# EAGLE library part BM10B(0.8)-40DP-0.4V (library con-hirose-bm10)
HEADER
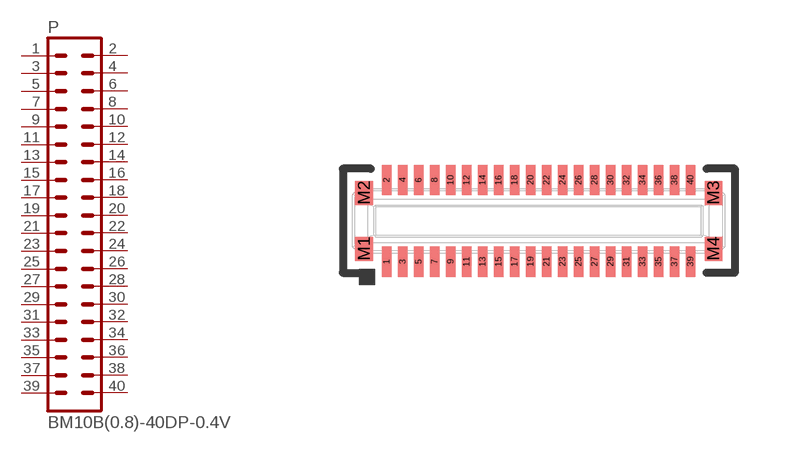
[diagram p0: symbol with the pads of BM10B(0.8)-40DP-0.4V; footprint BM10B(0.8)-40DP-0.4V]

Designator prefix P

## BM10B(0.8)-40DP-0.4V  [BM10B(0.8)-40DP-0.4V]
1  1  pas
2  2  pas
3  3  pas
4  4  pas
5  5  pas
6  6  pas
7  7  pas
8  8  pas
9  9  pas
10  10  pas
11  11  pas
12  12  pas
13  13  pas
14  14  pas
15  15  pas
16  16  pas
17  17  pas
18  18  pas
19  19  pas
20  20  pas
21  21  pas
22  22  pas
23  23  pas
24  24  pas
25  25  pas
26  26  pas
27  27  pas
28  28  pas
29  29  pas
30  30  pas
31  31  pas
32  32  pas
33  33  pas
34  34  pas
35  35  pas
36  36  pas
37  37  pas
38  38  pas
39  39  pas
40  40  pas

## Footprint BM10B(0.8)-40DP-0.4V (pad centres in mm)
HEADER
smd 0.23 x 0.76: 1 -3.8,-1.02; 2 -3.8,1.02; 3 -3.4,-1.02; 4 -3.4,1.02; 5 -3,-1.02; 6 -3,1.02; 7 -2.6,-1.02; 8 -2.6,1.02; 9 -2.2,-1.02; 10 -2.2,1.02; 11 -1.8,-1.02; 12 -1.8,1.02; 13 -1.4,-1.02; 14 -1.4,1.02; 15 -1,-1.02; 16 -1,1.02; 17 -0.6,-1.02; 18 -0.6,1.02; 19 -0.2,-1.02; 20 -0.2,1.02; 21 0.2,-1.02; 22 0.2,1.02; 23 0.6,-1.02; 24 0.6,1.02; 25 1,-1.02; 26 1,1.02; 27 1.4,-1.02; 28 1.4,1.02; 29 1.8,-1.02; 30 1.8,1.02; 31 2.2,-1.02; 32 2.2,1.02; 33 2.6,-1.02; 34 2.6,1.02; 35 3,-1.02; 36 3,1.02; 37 3.4,-1.02; 38 3.4,1.02; 39 3.8,-1.02; 40 3.8,1.02
smd 0.44 x 0.6: M1 -4.37,-0.7; M2 -4.37,0.7; M3 4.37,0.7; M4 4.37,-0.7